# Altium footprint library PowerCases.PcbLib: 6 footprints
Each footprint in its own frame and in the unit in brackets; x right, y up, seen from the top. Pads: shape width x height; smd on the part's side, far side on the other; paste and mask are expansions set on the pad; w line width, h text height; cw(c..) or ccw(c..) is an arc to the next point about the centre after c.
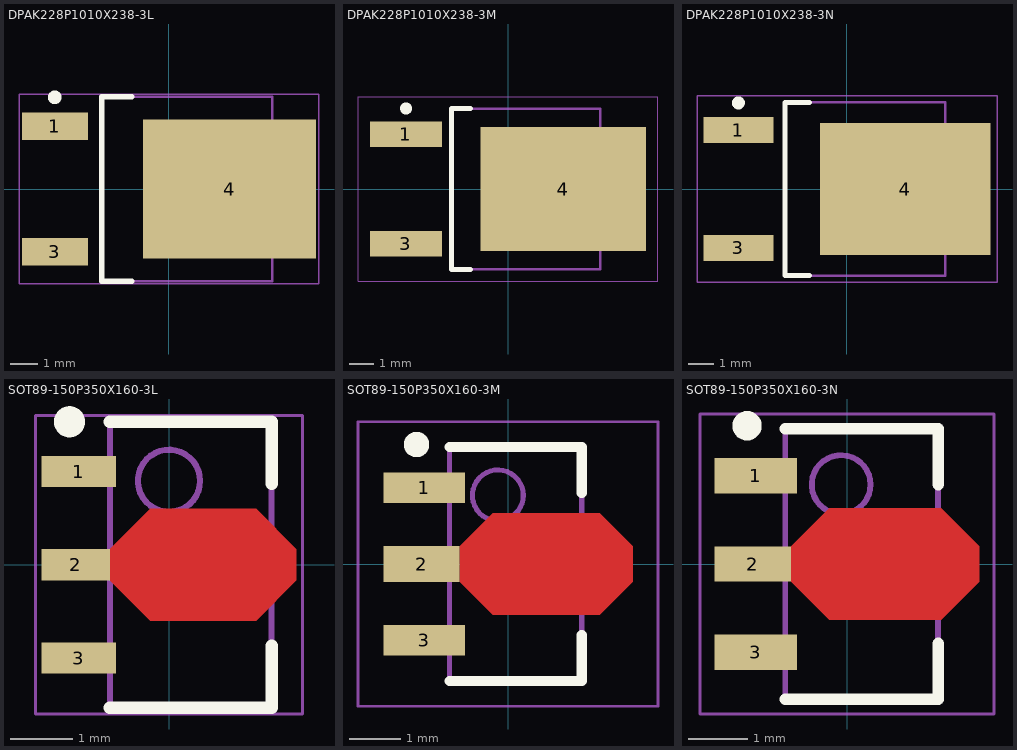
[diagram p0: the footprints below, top view; thin cyan lines are the x and y axes]

## DPAK228P1010X238-3L [mm] "D-PAK, 3-Pads, Body 6,20x6,71mm (max), IPC High Density"
height 2.38
pads (3):
  rect 2.4x1 smd: 1(-4.15,2.28) 3(-4.15,-2.28)
  rect 6.3x5.05 smd: 4(2.2,0)
Top Overlay:
  circle w0.25: c-4.15,3.33 r0.125
  lines w0.2: -1.35,-3.35 -2.45,-3.35 -2.45,3.35 -1.35,3.35
Mechanical 13:
  lines w0.1: -2.45,-3.35 -2.45,3.35 3.75,3.35 3.75,-3.35 -2.45,-3.35
Mechanical 15:
  lines w0.05: -5.45,-3.45 -5.45,3.45 5.45,3.45 5.45,-3.45 -5.45,-3.45
  lines w0.1: -0.5,0 0.5,0 ; 0,-0.5 0,0.5
3D body "DPAK228P1010X238-3L.step": height 2.38, standoff 0, extent -4.725,-3.35 5.375,3.35

## DPAK228P1010X238-3M [mm] "D-PAK, 3-Pads, Body 6,20x6,71mm (max), IPC Low Density"
height 2.38
pads (3):
  rect 3x1.05 smd: 1(-4.25,2.28) 3(-4.25,-2.28)
  rect 6.9x5.15 smd: 4(2.3,0)
Top Overlay:
  circle w0.25: c-4.25,3.355 r0.125
  lines w0.2: -1.55,-3.35 -2.35,-3.35 -2.35,3.35 -1.55,3.35
Mechanical 13:
  lines w0.1: -2.35,-3.35 -2.35,3.35 3.85,3.35 3.85,-3.35 -2.35,-3.35
Mechanical 15:
  lines w0.05: -6.25,-3.85 -6.25,3.85 6.25,3.85 6.25,-3.85 -6.25,-3.85
  lines w0.1: -0.5,0 0.5,0 ; 0,-0.5 0,0.5
3D body "DPAK228P1010X238-3M.step": height 2.38, standoff 0, extent -4.575,-3.35 5.525,3.35

## DPAK228P1010X238-3N [mm] "D-PAK, 3-Pads, Body 6,20x6,71mm (max), IPC Medium Density"
height 2.38
pads (3):
  rect 2.7x1 smd: 1(-4.2,2.28) 3(-4.2,-2.28)
  rect 6.6x5.1 smd: 4(2.25,0)
Top Overlay:
  circle w0.25: c-4.2,3.33 r0.125
  lines w0.2: -1.45,-3.35 -2.4,-3.35 -2.4,3.35 -1.45,3.35
Mechanical 13:
  lines w0.1: -2.4,-3.35 -2.4,3.35 3.8,3.35 3.8,-3.35 -2.4,-3.35
Mechanical 15:
  lines w0.05: -5.8,-3.6 -5.8,3.6 5.8,3.6 5.8,-3.6 -5.8,-3.6
  lines w0.1: -0.5,0 0.5,0 ; 0,-0.5 0,0.5
3D body "DPAK228P1010X238-3N.step": height 2.38, standoff 0, extent -4.675,-3.35 5.425,3.35

## SOT89-150P350X160-3L [mm] "SOT89, 3-Leads, Body 4,50x13,30mm, Pitch 1,50mm, Lead Span 3,5mm, IPC High Density"
height 1.6
pads (3):
  rect 1.2x0.5 smd: 1(-1.45,1.5) 3(-1.45,-1.5)
  rect 1.1x0.5 smd: 2(-1.5,0)
Top Layer:
  region: -0.95,0.25 -0.3,0.9 1.4,0.9 2.05,0.25 2.05,-0.25 1.4,-0.9 -0.3,-0.9 -0.95,-0.25
Top Overlay:
  circle w0.25: c-1.6,2.3 r0.125
  lines w0.2: -0.95,-2.3 1.65,-2.3 1.65,-1.3 ; -0.95,2.3 1.65,2.3 1.65,1.3
Mechanical 13:
  circle w0.1: c0,1.35 r0.5
  lines w0.1: -0.95,-2.3 1.65,-2.3 1.65,2.3 -0.95,2.3 -0.95,-2.3
Mechanical 15:
  lines w0.05: -2.15,-2.4 2.15,-2.4 2.15,2.4 -2.15,2.4 -2.15,-2.4
  lines w0.1: -0.15,0 0.85,0 ; 0.35,-0.5 0.35,0.5
3D body "SOT89-150P350X160-3L.step": height 1.6, standoff 0, extent -2.2,-2.3 1.85,2.3

## SOT89-150P350X160-3M [mm] "SOT89, 3-Leads, Body 4,50x13,30mm, Pitch 1,50mm, Lead Span 3,5mm, IPC Low Density"
height 1.6
pads (3):
  rect 1.6x0.6 smd: 1(-1.65,1.5) 3(-1.65,-1.5)
  rect 1.5x0.7 smd: 2(-1.7,0)
Top Layer:
  region: -0.95,0.35 -0.3,1 1.8,1 2.45,0.35 2.45,-0.35 1.8,-1 -0.3,-1 -0.95,-0.35
Top Overlay:
  circle w0.25: c-1.8,2.35 r0.125
  lines w0.2: -1.15,-2.3 1.45,-2.3 1.45,-1.4 ; -1.15,2.3 1.45,2.3 1.45,1.4
Mechanical 13:
  circle w0.1: c-0.2,1.35 r0.5
  lines w0.1: -1.15,-2.3 1.45,-2.3 1.45,2.3 -1.15,2.3 -1.15,-2.3
Mechanical 15:
  lines w0.05: -2.95,-2.8 2.95,-2.8 2.95,2.8 -2.95,2.8 -2.95,-2.8
  lines w0.1: -0.35,0 0.65,0 ; 0.15,-0.5 0.15,0.5
3D body "SOT89-150P350X160-3M.step": height 1.6, standoff 0, extent -2.2,-2.3 1.85,2.3

## SOT89-150P350X160-3N [mm] "SOT89, 3-Leads, Body 4,50x13,30mm, Pitch 1,50mm, Lead Span 3,5mm, IPC Medium Density"
height 1.6
pads (3):
  rect 1.4x0.6 smd: 1(-1.55,1.5) 3(-1.55,-1.5)
  rect 1.3x0.6 smd: 2(-1.6,0)
Top Layer:
  region: -0.95,0.3 -0.3,0.95 1.6,0.95 2.25,0.3 2.25,-0.3 1.6,-0.95 -0.3,-0.95 -0.95,-0.3
Top Overlay:
  circle w0.25: c-1.7,2.35 r0.125
  lines w0.2: -1.05,-2.3 1.55,-2.3 1.55,-1.35 ; -1.05,2.3 1.55,2.3 1.55,1.35
Mechanical 13:
  circle w0.1: c-0.1,1.35 r0.5
  lines w0.1: -1.05,-2.3 1.55,-2.3 1.55,2.3 -1.05,2.3 -1.05,-2.3
Mechanical 15:
  lines w0.05: -2.5,-2.55 2.5,-2.55 2.5,2.55 -2.5,2.55 -2.5,-2.55
  lines w0.1: -0.25,0 0.75,0 ; 0.25,-0.5 0.25,0.5
3D body "SOT89-150P350X160-3N.step": height 1.6, standoff 0, extent -2.2,-2.3 1.85,2.3